# Altium footprint library PcbLib1.PcbLib: 3 footprints
Each footprint in its own frame and in the unit in brackets; x right, y up, seen from the top. Pads: shape width x height; smd on the part's side, far side on the other; paste and mask are expansions set on the pad; w line width, h text height; cw(c..) or ccw(c..) is an arc to the next point about the centre after c.
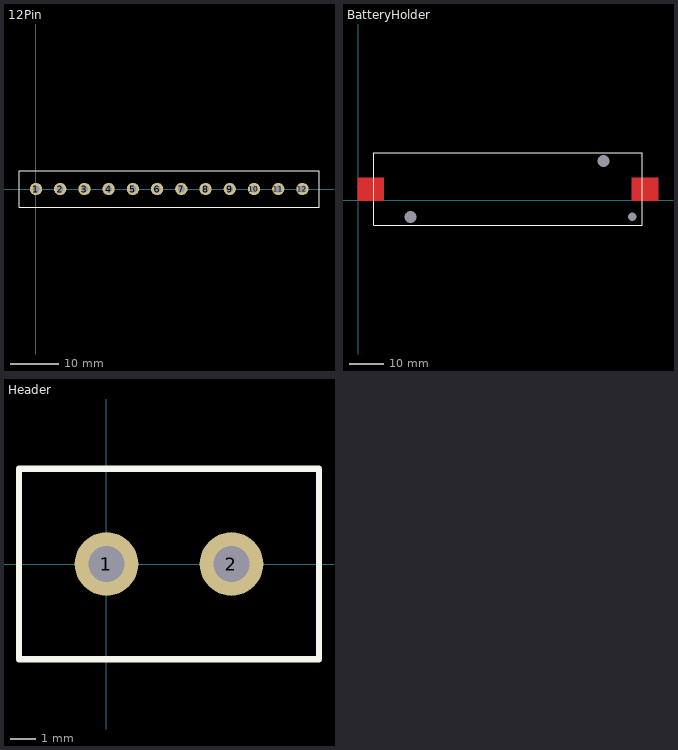
[diagram p0: the footprints below, top view; thin cyan lines are the x and y axes]

## 12Pin [mil]
pads (12):
  round 100 hole 56: 1(0,0) 2(196.85,0) 3(393.7,0) 4(590.55,0) 5(787.4,0) 6(984.25,0) 7(1181.1,0) 8(1377.95,0) 9(1574.8,0) 10(1771.65,0) 11(1968.5,0) 12(2165.35,0)
Top Overlay:
  lines w10: -137.79,-150 2300,-150 2300,150 -137.79,150 ; -137.79,-149.61 -137.79,149.61

## BatteryHolder [mil]
pads (3):
  round 60 hole 136: 1(594,-190) 2(2769,440)
  round 60 hole 94: ""(3097,-190)
Top Layer:
  region: 0,0 289,0 289,250 0,250
  region: 3097,0 3097,250 3386,250 3386,0
  lines w10: 0,0 0,250 289,250 289,0 0,0 ; 3097,0 3097,250 3386,250 3386,0 3097,0
Top Overlay:
  lines w10: 176,-281.5 3210,-281.5 3210,531.5 176,531.5 176,-281.5

## Header [mil]
pads (2):
  round 100 hole 56: 1(0,0) 2(196.85,0)
Top Overlay:
  lines w10: -137.79,-150 334.64,-150 334.64,150 -137.79,150 ; -137.79,-149.61 -137.79,149.61